# Altium schematic symbol library BUF602IDBVT.schlib: 1 symbol
Pins are listed as number, name and electrical type; pins without a type are passive.

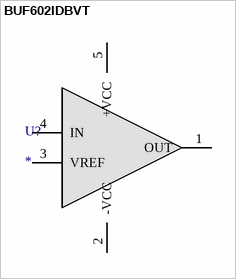
[diagram p0: symbol BUF602IDBVT]

## BUF602IDBVT
designator U?
1000MHz,Wide Bandwidth, High-Speed, Closed Loop Buffer 5-SOT-23 -45 to 85; MF: Texas Instruments; MP: BUF602IDBVT; Purchase-URL: https://pricing.snapeda.com/search/part/BUF602IDBVT/?ref=eda; Package: SOT-23-5 Texas Instruments; Check_prices: https://www.snapeda.com/parts/BUF602IDBVT/Texas%20Instruments/view-part/11391/?ref=eda; Value: *; Price: None; Availability: Good; SnapEDA_Link: https://www.snapeda.com/parts/BUF602IDBVT/Texas%20Instruments/view-part/11391/?ref=snap
footprint SOT95P280X145-5N
pins: 1 OUT, 2 -VCC, 3 VREF, 4 IN, 5 +VCC